# Altium footprint library PCB - LEADED - SOIC - TI SOIC-8 DDA0008J.PcbLib: 1 footprints
Each footprint in its own frame and in the unit in brackets; x right, y up, seen from the top. Pads: shape width x height; smd on the part's side, far side on the other; paste and mask are expansions set on the pad; w line width, h text height; cw(c..) or ccw(c..) is an arc to the next point about the centre after c.
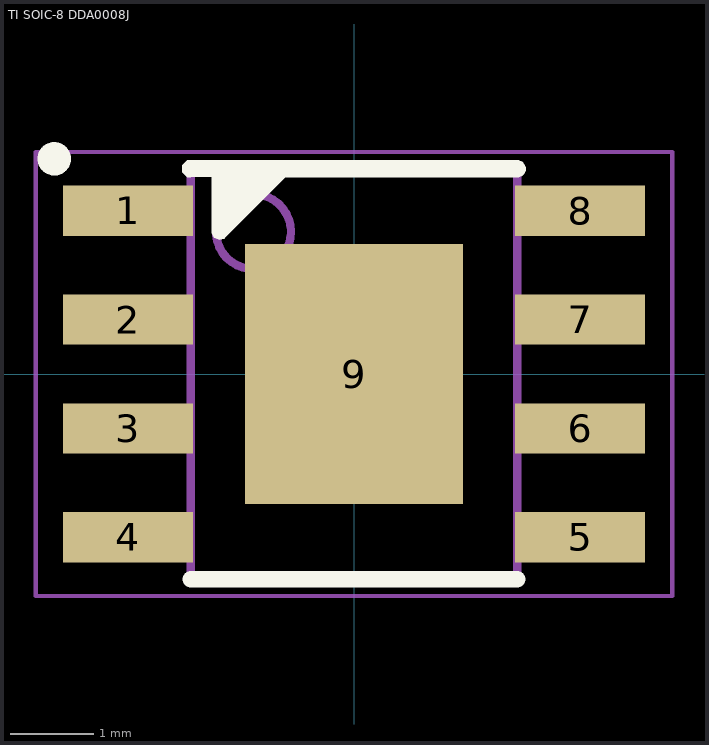
[diagram p0: the footprint, top view; thin cyan lines are the x and y axes]

## TI SOIC-8 DDA0008J [mm] "SOIC-8 Package , 8-Leades, 4.90 x 3.90 mm Body , Pitch 1.27 mm"
height 1.7
pads (9):
  rect 1.55x0.6 smd mask+0.05: 1(-2.7,1.95) 2(-2.7,0.65) 3(-2.7,-0.65) 4(-2.7,-1.95) 5(2.7,-1.95) 6(2.7,-0.65) 7(2.7,0.65) 8(2.7,1.95)
  rect 2.6x3.1 smd mask+0.05: 9(0,0)
Top Overlay:
  circle w0.2: c-3.58,2.57 r0.1
  region: -1.95,2.35 -1.7,2.35 -1.7,1.71 -1.7,1.68 -1.667,1.629 -1.61,1.606 -1.551,1.617 -1.529,1.639 -0.818,2.35 1.95,2.35 1.97,2.35 2.007,2.365 2.035,2.393 2.05,2.43 2.05,2.45 2.05,2.47 2.035,2.507 2.007,2.535 1.97,2.55 1.95,2.55 -1.95,2.55 -1.992,2.55 -2.05,2.492 -2.05,2.408 -1.992,2.35
  lines w0.2: -1.95,-2.45 1.95,-2.45 ; -1.95,2.45 1.95,2.45 ; -1.6,2.4 -1.6,1.71 -0.875,2.435
Top Component Center:
  lines w0.1: -1,0 0,0 ; 0,-1 0,0 ; 0,1 0,0 ; 1,0 0,0
Top Assembly:
  circle w0.1: c-1.2,1.7 r0.447
  lines w0.1: -1.95,-2.45 1.95,-2.45 1.95,2.45 -1.95,2.45 -1.95,-2.45
Top Courtyard:
  lines w0.05: -3.8,-2.65 -3.8,2.65 3.8,2.65 3.8,-2.65 -3.8,-2.65
3D body "TI - SOIC-8 - DDA0008J v2.step": height 1.7, standoff 0, extent -3,-2.45 3,2.45